# Altium footprint library Power Management Linear Regulator.PcbLib: 75 footprints (part 3 of 5)
Each footprint in its own frame and in the unit in brackets; x right, y up, seen from the top. Pads: shape width x height; smd on the part's side, far side on the other; paste and mask are expansions set on the pad; w line width, h text height; cw(c..) or ccw(c..) is an arc to the next point about the centre after c.
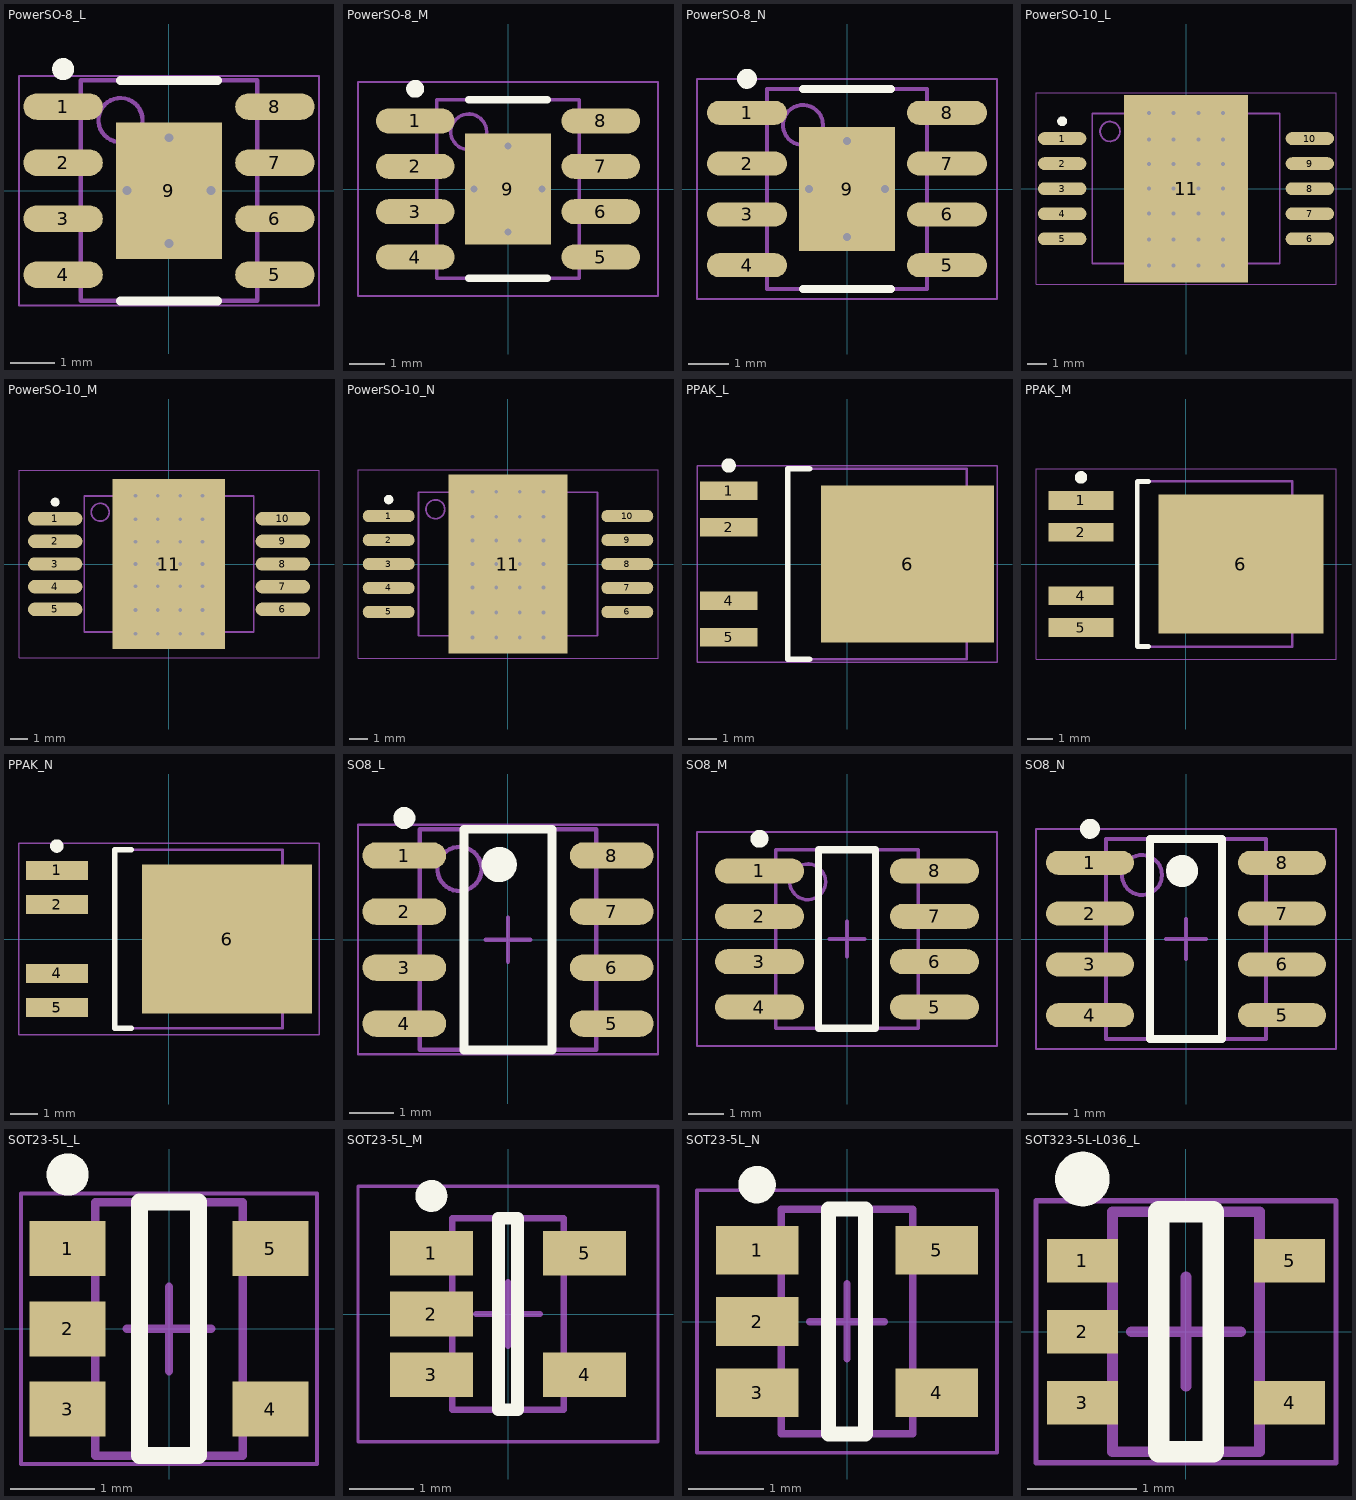
[diagram p2: the footprints below, top view; thin cyan lines are the x and y axes]

## PowerSO-8_L [mm] "SOIC, 8-Leads, Body 4.9x3.9mm, Pitch 1.27mm, Thermal Pad, IPC High Density"
height 1.7
pads (9):
  oval 1.8x0.6 smd: 1(-2.4,1.905) 2(-2.4,0.635) 3(-2.4,-0.635) 4(-2.4,-1.905) 5(2.4,-1.905) 6(2.4,-0.635) 7(2.4,0.635) 8(2.4,1.905)
  rect 2.41x3.1 smd paste-1.2: 9(0,0)
via -0.95,0 diameter 0.5 hole 0.2
via 0,-1.2 diameter 0.5 hole 0.2
via 0,1.2 diameter 0.5 hole 0.2
via 0.95,0 diameter 0.5 hole 0.2
Top Overlay:
  circle w0.25: c-2.4,2.755 r0.125
  lines w0.2: -1.1,-2.5 1.1,-2.5 ; -1.1,2.5 1.1,2.5
Top Paste:
  rectangle: 0.1,-1.45 1.1,-0.1
  region: -0.1,-0.1 -1.1,-0.1 -1.1,-1.45 -0.1,-1.45
  region: -0.1,1.45 -1.1,1.45 -1.1,0.1 -0.1,0.1
  rectangle: 0.1,0.1 1.1,1.45
Mechanical 13:
  circle w0.1: c-1.1,1.6 r0.5
  lines w0.1: -2,-2.5 -2,2.5 2,2.5 2,-2.5 -2,-2.5
Mechanical 15:
  lines w0.05: -3.4,-2.6 -3.4,2.6 3.4,2.6 3.4,-2.6 -3.4,-2.6
  lines w0.1: -0.5,0 0.5,0 ; 0,-0.5 0,0.5
3D body: height 1.7, standoff 0, extent -2,-2.5 2,2.5

## PowerSO-8_M [mm] "SOIC, 8-Leads, Body 4.9x3.9mm, Pitch 1.27mm, Thermal Pad, IPC Low Density"
height 1.7
pads (9):
  oval 2.2x0.7 smd: 1(-2.6,1.905) 2(-2.6,0.635) 3(-2.6,-0.635) 4(-2.6,-1.905) 5(2.6,-1.905) 6(2.6,-0.635) 7(2.6,0.635) 8(2.6,1.905)
  rect 2.41x3.1 smd paste-1.2: 9(0,0)
via 0.95,0 diameter 0.5 hole 0.2
via 0,1.2 diameter 0.5 hole 0.2
via 0,-1.2 diameter 0.5 hole 0.2
via -0.95,0 diameter 0.5 hole 0.2
Top Overlay:
  circle w0.25: c-2.6,2.805 r0.125
  lines w0.2: -1.1,-2.5 1.1,-2.5 ; -1.1,2.5 1.1,2.5
Top Paste:
  rectangle: 0.1,0.1 1.1,1.45
  region: -0.1,1.45 -1.1,1.45 -1.1,0.1 -0.1,0.1
  region: -0.1,-0.1 -1.1,-0.1 -1.1,-1.45 -0.1,-1.45
  rectangle: 0.1,-1.45 1.1,-0.1
Mechanical 13:
  circle w0.1: c-1.1,1.6 r0.5
  lines w0.1: -2,-2.5 -2,2.5 2,2.5 2,-2.5 -2,-2.5
Mechanical 15:
  lines w0.05: -4.2,-3 -4.2,3 4.2,3 4.2,-3 -4.2,-3
  lines w0.1: -0.5,0 0.5,0 ; 0,-0.5 0,0.5
3D body: height 1.7, standoff 0, extent -2,-2.5 2,2.5

## PowerSO-8_N [mm] "SOIC, 8-Leads, Body 4.9x3.9mm, Pitch 1.27mm, Thermal Pad, IPC Medium Density"
height 1.7
pads (9):
  oval 2x0.6 smd: 1(-2.5,1.905) 2(-2.5,0.635) 3(-2.5,-0.635) 4(-2.5,-1.905) 5(2.5,-1.905) 6(2.5,-0.635) 7(2.5,0.635) 8(2.5,1.905)
  rect 2.41x3.1 smd paste-1.2: 9(0,0)
via -0.95,0 diameter 0.5 hole 0.2
via 0,-1.2 diameter 0.5 hole 0.2
via 0,1.2 diameter 0.5 hole 0.2
via 0.95,0 diameter 0.5 hole 0.2
Top Overlay:
  circle w0.25: c-2.5,2.755 r0.125
  lines w0.2: -1.1,-2.5 1.1,-2.5 ; -1.1,2.5 1.1,2.5
Top Paste:
  rectangle: 0.1,-1.45 1.1,-0.1
  region: -0.1,-0.1 -1.1,-0.1 -1.1,-1.45 -0.1,-1.45
  region: -0.1,1.45 -1.1,1.45 -1.1,0.1 -0.1,0.1
  rectangle: 0.1,0.1 1.1,1.45
Mechanical 13:
  circle w0.1: c-1.1,1.6 r0.5
  lines w0.1: -2,-2.5 2,-2.5 2,2.5 -2,2.5 -2,-2.5
Mechanical 15:
  lines w0.05: -3.75,-2.75 3.75,-2.75 3.75,2.75 -3.75,2.75 -3.75,-2.75
  lines w0.1: -0.5,0 0.5,0 ; 0,-0.5 0,0.5
3D body: height 1.7, standoff 0, extent -2,-2.5 2,2.5

## PowerSO-10_L [mm] "SOP, 10-Leads, Body 7.5x9.4mm, Pitch 1.27mm, Thermal Pad, IPC High Density"
height 3.7
pads (11):
  oval 2.45x0.65 smd: 1(-6.275,2.54) 2(-6.275,1.27) 3(-6.275,0) 4(-6.275,-1.27) 5(-6.275,-2.54) 6(6.275,-2.54) 7(6.275,-1.27) 8(6.275,0) 9(6.275,1.27) 10(6.275,2.54)
  rect 6.3x9.5 smd paste-3.15 mask+0.051: 11(0,0)
via 0.625,-1.25 diameter 0.5 hole 0.2
via -0.625,-1.25 diameter 0.5 hole 0.2
via -1.875,-1.25 diameter 0.5 hole 0.2
via -1.875,1.25 diameter 0.5 hole 0.2
via -1.875,0 diameter 0.5 hole 0.2
via -0.625,0 diameter 0.5 hole 0.2
via -1.875,2.5 diameter 0.5 hole 0.2
via 0.625,2.5 diameter 0.5 hole 0.2
via -0.625,2.5 diameter 0.5 hole 0.2
via -0.625,1.25 diameter 0.5 hole 0.2
via 1.875,-1.25 diameter 0.5 hole 0.2
via 1.875,0 diameter 0.5 hole 0.2
via 1.875,2.5 diameter 0.5 hole 0.2
via 0.625,0 diameter 0.5 hole 0.2
via 0.625,2.5 diameter 0.5 hole 0.2
via 1.875,1.25 diameter 0.5 hole 0.2
via 0.625,1.25 diameter 0.5 hole 0.2
via 1.875,-2.575 diameter 0.5 hole 0.2
via -1.875,-2.575 diameter 0.5 hole 0.2
via -0.625,-2.575 diameter 0.5 hole 0.2
via 0.625,-2.575 diameter 0.5 hole 0.2
via -1.875,3.825 diameter 0.5 hole 0.2
via 1.875,3.825 diameter 0.5 hole 0.2
via 0.625,3.825 diameter 0.5 hole 0.2
via -0.625,3.825 diameter 0.5 hole 0.2
via 0.625,-3.9 diameter 0.5 hole 0.2
via -0.625,-3.9 diameter 0.5 hole 0.2
via -1.875,-3.9 diameter 0.5 hole 0.2
via 1.875,-3.9 diameter 0.5 hole 0.2
Top Overlay:
  circle w0.25: c-6.275,3.415 r0.125
Top Paste:
  region: -0.738,-2.387 -0.738,-1.437 -1.762,-1.437 -1.762,-2.387
  region: 0.512,-2.387 0.512,-1.437 -0.512,-1.437 -0.512,-2.387
  region: 1.762,-2.387 1.762,-1.437 0.738,-1.437 0.738,-2.387
  region: -1.762,3.637 -1.762,2.687 -0.738,2.687 -0.738,3.637
  region: -0.512,3.637 -0.512,2.687 0.512,2.687 0.512,3.637
  region: 0.738,3.637 0.738,2.687 1.762,2.687 1.762,3.637
  region: 1.725,-1.1 1.725,-0.15 0.775,-0.15 0.775,-1.1
  region: 0.475,-1.1 0.475,-0.15 -0.475,-0.15 -0.475,-1.1
  region: -0.775,-1.1 -0.775,-0.15 -1.725,-0.15 -1.725,-1.1
  region: -0.775,0.15 -0.775,1.1 -1.725,1.1 -1.725,0.15
  rectangle: -1.725,1.4 -0.775,2.35
  region: 0.475,2.35 -0.475,2.35 -0.475,1.4 0.475,1.4
  rectangle: -3.05,0.15 -2.025,1.1
  rectangle: -3.05,1.4 -2.025,2.35
  rectangle: -3.05,2.65 -2.025,3.675
  rectangle: -3.05,0.15 -2.025,1.1
  rectangle: -3.05,-2.425 -2.025,-1.4
  rectangle: -3.05,-1.1 -2.025,-0.15
  region: 3.05,-0.15 2.025,-0.15 2.025,-1.1 3.05,-1.1
  region: 3.05,-1.4 2.025,-1.4 2.025,-2.425 3.05,-2.425
  region: 3.05,1.1 2.025,1.1 2.025,0.15 3.05,0.15
  region: 3.05,3.675 2.025,3.675 2.025,2.65 3.05,2.65
  region: 3.05,2.35 2.025,2.35 2.025,1.4 3.05,1.4
  region: 1.725,1.1 0.775,1.1 0.775,0.15 1.725,0.15
  region: 1.725,2.35 0.775,2.35 0.775,1.4 1.725,1.4
  rectangle: -0.475,0.15 0.475,1.1
  region: 3.05,-2.725 2.025,-2.725 2.025,-3.75 3.05,-3.75
  rectangle: -3.05,-3.75 -2.025,-2.725
  region: 1.762,-3.713 1.762,-2.763 0.738,-2.763 0.738,-3.713
  region: 0.512,-3.713 0.512,-2.763 -0.512,-2.763 -0.512,-3.713
  region: -0.738,-3.713 -0.738,-2.763 -1.762,-2.763 -1.762,-3.713
  rectangle: -3.05,3.975 -2.025,4.65
  region: 3.05,4.65 2.025,4.65 2.025,3.975 3.05,3.975
  region: -1.763,4.65 -1.763,4.012 -0.738,4.012 -0.738,4.65
  region: -0.513,4.65 -0.513,4.012 0.512,4.012 0.512,4.65
  region: 0.737,4.65 0.737,4.012 1.762,4.012 1.762,4.65
  region: -0.738,-4.65 -0.738,-4.087 -1.763,-4.087 -1.763,-4.65
  region: 0.512,-4.65 0.512,-4.087 -0.513,-4.087 -0.513,-4.65
  region: 1.762,-4.65 1.762,-4.087 0.737,-4.087 0.737,-4.65
  rectangle: -3.05,-4.65 -2.025,-4.05
  region: 3.05,-4.05 2.025,-4.05 2.025,-4.65 3.05,-4.65
Mechanical 13:
  circle w0.1: c-3.85,2.9 r0.5
  lines w0.1: -4.75,-3.8 4.75,-3.8 4.75,3.8 -4.75,3.8 -4.75,-3.8
Mechanical 15:
  lines w0.05: -7.6,-4.85 7.6,-4.85 7.6,4.85 -7.6,4.85 -7.6,-4.85
  lines w0.1: -0.5,0 0.5,0 ; 0,-0.5 0,0.5
3D body: height 3.7, standoff 0, extent -4.75,-3.8 4.75,3.8

## PowerSO-10_M [mm] "SOP, 10-Leads, Body 7.5x9.4mm, Pitch 1.27mm, Thermal Pad, IPC Low Density"
height 3.7
pads (11):
  oval 3.05x0.75 smd: 1(-6.375,2.54) 2(-6.375,1.27) 3(-6.375,0) 4(-6.375,-1.27) 5(-6.375,-2.54) 6(6.375,-2.54) 7(6.375,-1.27) 8(6.375,0) 9(6.375,1.27) 10(6.375,2.54)
  rect 6.3x9.5 smd paste-3.15 mask+0.051: 11(0,0)
via 0.625,-1.25 diameter 0.5 hole 0.2
via -0.625,-1.25 diameter 0.5 hole 0.2
via -1.875,-1.25 diameter 0.5 hole 0.2
via -1.875,1.25 diameter 0.5 hole 0.2
via -1.875,0 diameter 0.5 hole 0.2
via -0.625,0 diameter 0.5 hole 0.2
via -1.875,2.5 diameter 0.5 hole 0.2
via 0.625,2.5 diameter 0.5 hole 0.2
via -0.625,2.5 diameter 0.5 hole 0.2
via -0.625,1.25 diameter 0.5 hole 0.2
via 1.875,-1.25 diameter 0.5 hole 0.2
via 1.875,0 diameter 0.5 hole 0.2
via 1.875,2.5 diameter 0.5 hole 0.2
via 0.625,0 diameter 0.5 hole 0.2
via 0.625,2.5 diameter 0.5 hole 0.2
via 1.875,1.25 diameter 0.5 hole 0.2
via 0.625,1.25 diameter 0.5 hole 0.2
via 1.875,-2.575 diameter 0.5 hole 0.2
via -1.875,-2.575 diameter 0.5 hole 0.2
via -0.625,-2.575 diameter 0.5 hole 0.2
via 0.625,-2.575 diameter 0.5 hole 0.2
via -1.875,3.825 diameter 0.5 hole 0.2
via 1.875,3.825 diameter 0.5 hole 0.2
via 0.625,3.825 diameter 0.5 hole 0.2
via -0.625,3.825 diameter 0.5 hole 0.2
via 0.625,-3.9 diameter 0.5 hole 0.2
via -0.625,-3.9 diameter 0.5 hole 0.2
via -1.875,-3.9 diameter 0.5 hole 0.2
via 1.875,-3.9 diameter 0.5 hole 0.2
Top Overlay:
  circle w0.25: c-6.375,3.465 r0.125
Top Paste:
  region: -0.738,-2.387 -0.738,-1.437 -1.762,-1.437 -1.762,-2.387
  region: 0.512,-2.387 0.512,-1.437 -0.512,-1.437 -0.512,-2.387
  region: 1.762,-2.387 1.762,-1.437 0.738,-1.437 0.738,-2.387
  region: -1.762,3.637 -1.762,2.687 -0.738,2.687 -0.738,3.637
  region: -0.512,3.637 -0.512,2.687 0.512,2.687 0.512,3.637
  region: 0.738,3.637 0.738,2.687 1.762,2.687 1.762,3.637
  region: 1.725,-1.1 1.725,-0.15 0.775,-0.15 0.775,-1.1
  region: 0.475,-1.1 0.475,-0.15 -0.475,-0.15 -0.475,-1.1
  region: -0.775,-1.1 -0.775,-0.15 -1.725,-0.15 -1.725,-1.1
  region: -0.775,0.15 -0.775,1.1 -1.725,1.1 -1.725,0.15
  rectangle: -1.725,1.4 -0.775,2.35
  region: 0.475,2.35 -0.475,2.35 -0.475,1.4 0.475,1.4
  rectangle: -3.05,0.15 -2.025,1.1
  rectangle: -3.05,1.4 -2.025,2.35
  rectangle: -3.05,2.65 -2.025,3.675
  rectangle: -3.05,0.15 -2.025,1.1
  rectangle: -3.05,-2.425 -2.025,-1.4
  rectangle: -3.05,-1.1 -2.025,-0.15
  region: 3.05,-0.15 2.025,-0.15 2.025,-1.1 3.05,-1.1
  region: 3.05,-1.4 2.025,-1.4 2.025,-2.425 3.05,-2.425
  region: 3.05,1.1 2.025,1.1 2.025,0.15 3.05,0.15
  region: 3.05,3.675 2.025,3.675 2.025,2.65 3.05,2.65
  region: 3.05,2.35 2.025,2.35 2.025,1.4 3.05,1.4
  region: 1.725,1.1 0.775,1.1 0.775,0.15 1.725,0.15
  region: 1.725,2.35 0.775,2.35 0.775,1.4 1.725,1.4
  rectangle: -0.475,0.15 0.475,1.1
  region: 3.05,-2.725 2.025,-2.725 2.025,-3.75 3.05,-3.75
  rectangle: -3.05,-3.75 -2.025,-2.725
  region: 1.762,-3.713 1.762,-2.763 0.738,-2.763 0.738,-3.713
  region: 0.512,-3.713 0.512,-2.763 -0.512,-2.763 -0.512,-3.713
  region: -0.738,-3.713 -0.738,-2.763 -1.762,-2.763 -1.762,-3.713
  rectangle: -3.05,3.975 -2.025,4.65
  region: 3.05,4.65 2.025,4.65 2.025,3.975 3.05,3.975
  region: -1.763,4.65 -1.763,4.012 -0.738,4.012 -0.738,4.65
  region: -0.513,4.65 -0.513,4.012 0.512,4.012 0.512,4.65
  region: 0.737,4.65 0.737,4.012 1.762,4.012 1.762,4.65
  region: -0.738,-4.65 -0.738,-4.087 -1.763,-4.087 -1.763,-4.65
  region: 0.512,-4.65 0.512,-4.087 -0.513,-4.087 -0.513,-4.65
  region: 1.762,-4.65 1.762,-4.087 0.737,-4.087 0.737,-4.65
  rectangle: -3.05,-4.65 -2.025,-4.05
  region: 3.05,-4.05 2.025,-4.05 2.025,-4.65 3.05,-4.65
Mechanical 13:
  circle w0.1: c-3.85,2.9 r0.5
  lines w0.1: -4.75,-3.8 -4.75,3.8 4.75,3.8 4.75,-3.8 -4.75,-3.8
Mechanical 15:
  lines w0.05: -8.4,-5.25 -8.4,5.25 8.4,5.25 8.4,-5.25 -8.4,-5.25
  lines w0.1: -0.5,0 0.5,0 ; 0,-0.5 0,0.5
3D body: height 3.7, standoff 0, extent -4.75,-3.8 4.75,3.8

## PowerSO-10_N [mm] "SOP, 10-Leads, Body 7.5x9.4mm, Pitch 1.27mm, Thermal Pad, IPC Medium Density"
height 3.7
pads (11):
  oval 2.75x0.65 smd: 1(-6.325,2.54) 2(-6.325,1.27) 3(-6.325,0) 4(-6.325,-1.27) 5(-6.325,-2.54) 6(6.325,-2.54) 7(6.325,-1.27) 8(6.325,0) 9(6.325,1.27) 10(6.325,2.54)
  rect 6.3x9.5 smd paste-3.15 mask+0.051: 11(0,0)
via 1.875,-3.9 diameter 0.5 hole 0.2
via -1.875,-3.9 diameter 0.5 hole 0.2
via -0.625,-3.9 diameter 0.5 hole 0.2
via 0.625,-3.9 diameter 0.5 hole 0.2
via -0.625,3.825 diameter 0.5 hole 0.2
via 0.625,3.825 diameter 0.5 hole 0.2
via 1.875,3.825 diameter 0.5 hole 0.2
via -1.875,3.825 diameter 0.5 hole 0.2
via 0.625,-2.575 diameter 0.5 hole 0.2
via -0.625,-2.575 diameter 0.5 hole 0.2
via -1.875,-2.575 diameter 0.5 hole 0.2
via 1.875,-2.575 diameter 0.5 hole 0.2
via 0.625,1.25 diameter 0.5 hole 0.2
via 1.875,1.25 diameter 0.5 hole 0.2
via 0.625,2.5 diameter 0.5 hole 0.2
via 0.625,0 diameter 0.5 hole 0.2
via 1.875,2.5 diameter 0.5 hole 0.2
via 1.875,0 diameter 0.5 hole 0.2
via 1.875,-1.25 diameter 0.5 hole 0.2
via -0.625,1.25 diameter 0.5 hole 0.2
via -0.625,2.5 diameter 0.5 hole 0.2
via 0.625,2.5 diameter 0.5 hole 0.2
via -1.875,2.5 diameter 0.5 hole 0.2
via -0.625,0 diameter 0.5 hole 0.2
via -1.875,0 diameter 0.5 hole 0.2
via -1.875,1.25 diameter 0.5 hole 0.2
via -1.875,-1.25 diameter 0.5 hole 0.2
via -0.625,-1.25 diameter 0.5 hole 0.2
via 0.625,-1.25 diameter 0.5 hole 0.2
Top Overlay:
  circle w0.25: c-6.325,3.415 r0.125
Top Paste:
  region: 3.05,-4.05 2.025,-4.05 2.025,-4.65 3.05,-4.65
  rectangle: -3.05,-4.65 -2.025,-4.05
  region: 1.762,-4.65 1.762,-4.087 0.737,-4.087 0.737,-4.65
  region: 0.512,-4.65 0.512,-4.087 -0.513,-4.087 -0.513,-4.65
  region: -0.738,-4.65 -0.738,-4.087 -1.763,-4.087 -1.763,-4.65
  region: 0.737,4.65 0.737,4.012 1.762,4.012 1.762,4.65
  region: -0.513,4.65 -0.513,4.012 0.512,4.012 0.512,4.65
  region: -1.763,4.65 -1.763,4.012 -0.738,4.012 -0.738,4.65
  region: 3.05,4.65 2.025,4.65 2.025,3.975 3.05,3.975
  rectangle: -3.05,3.975 -2.025,4.65
  region: -0.738,-3.713 -0.738,-2.763 -1.762,-2.763 -1.762,-3.713
  region: 0.512,-3.713 0.512,-2.763 -0.512,-2.763 -0.512,-3.713
  region: 1.762,-3.713 1.762,-2.763 0.738,-2.763 0.738,-3.713
  rectangle: -3.05,-3.75 -2.025,-2.725
  region: 3.05,-2.725 2.025,-2.725 2.025,-3.75 3.05,-3.75
  rectangle: -0.475,0.15 0.475,1.1
  region: 1.725,2.35 0.775,2.35 0.775,1.4 1.725,1.4
  region: 1.725,1.1 0.775,1.1 0.775,0.15 1.725,0.15
  region: 3.05,2.35 2.025,2.35 2.025,1.4 3.05,1.4
  region: 3.05,3.675 2.025,3.675 2.025,2.65 3.05,2.65
  region: 3.05,1.1 2.025,1.1 2.025,0.15 3.05,0.15
  region: 3.05,-1.4 2.025,-1.4 2.025,-2.425 3.05,-2.425
  region: 3.05,-0.15 2.025,-0.15 2.025,-1.1 3.05,-1.1
  rectangle: -3.05,-1.1 -2.025,-0.15
  rectangle: -3.05,-2.425 -2.025,-1.4
  rectangle: -3.05,0.15 -2.025,1.1
  rectangle: -3.05,2.65 -2.025,3.675
  rectangle: -3.05,1.4 -2.025,2.35
  rectangle: -3.05,0.15 -2.025,1.1
  region: 0.475,2.35 -0.475,2.35 -0.475,1.4 0.475,1.4
  rectangle: -1.725,1.4 -0.775,2.35
  region: -0.775,0.15 -0.775,1.1 -1.725,1.1 -1.725,0.15
  region: -0.775,-1.1 -0.775,-0.15 -1.725,-0.15 -1.725,-1.1
  region: 0.475,-1.1 0.475,-0.15 -0.475,-0.15 -0.475,-1.1
  region: 1.725,-1.1 1.725,-0.15 0.775,-0.15 0.775,-1.1
  region: 0.738,3.637 0.738,2.687 1.762,2.687 1.762,3.637
  region: -0.512,3.637 -0.512,2.687 0.512,2.687 0.512,3.637
  region: -1.762,3.637 -1.762,2.687 -0.738,2.687 -0.738,3.637
  region: 1.762,-2.387 1.762,-1.437 0.738,-1.437 0.738,-2.387
  region: 0.512,-2.387 0.512,-1.437 -0.512,-1.437 -0.512,-2.387
  region: -0.738,-2.387 -0.738,-1.437 -1.762,-1.437 -1.762,-2.387
Mechanical 13:
  circle w0.1: c-3.85,2.9 r0.5
  lines w0.1: -4.75,-3.8 -4.75,3.8 4.75,3.8 4.75,-3.8 -4.75,-3.8
Mechanical 15:
  lines w0.05: -7.95,-5 -7.95,5 7.95,5 7.95,-5 -7.95,-5
  lines w0.1: -0.5,0 0.5,0 ; 0,-0.5 0,0.5
3D body: height 3.7, standoff 0, extent -4.75,-3.8 4.75,3.8

## PPAK_L [mm] "D-PAK, 6-Leads, Body 6.1x6.5mm, Pitch 1.27mm, Lead Span 9.7mm, IPC High Density"
height 2.4
pads (5):
  rect 2x0.65 smd: 1(-4.1,2.54) 2(-4.1,1.27) 4(-4.1,-1.27) 5(-4.1,-2.54)
  rect 6x5.45 smd: 6(2.1,0)
Top Overlay:
  circle w0.25: c-4.1,3.415 r0.125
  lines w0.2: -1.3,-3.3 -2.05,-3.3 -2.05,3.3 -1.3,3.3
Mechanical 13:
  lines w0.1: -2.05,-3.3 4.15,-3.3 4.15,3.3 -2.05,3.3 -2.05,-3.3
Mechanical 15:
  lines w0.05: -5.2,-3.4 5.2,-3.4 5.2,3.4 -5.2,3.4 -5.2,-3.4
  lines w0.1: -0.5,0 0.5,0 ; 0,-0.5 0,0.5
3D body: height 2.4, standoff 0, extent -2.05,-3.3 4.15,3.3

## PPAK_M [mm] "D-PAK, 6-Leads, Body 6.1x6.5mm, Pitch 1.27mm, Lead Span 9.7mm, IPC Low Density"
height 2.4
pads (5):
  rect 2.6x0.75 smd: 1(-4.2,2.54) 2(-4.2,1.27) 4(-4.2,-1.27) 5(-4.2,-2.54)
  rect 6.6x5.55 smd: 6(2.2,0)
Top Overlay:
  circle w0.25: c-4.2,3.465 r0.125
  lines w0.2: -1.5,-3.3 -1.95,-3.3 -1.95,3.3 -1.5,3.3
Mechanical 13:
  lines w0.1: -1.95,-3.3 4.25,-3.3 4.25,3.3 -1.95,3.3 -1.95,-3.3
Mechanical 15:
  lines w0.05: -6,-3.8 6,-3.8 6,3.8 -6,3.8 -6,-3.8
  lines w0.1: -0.5,0 0.5,0 ; 0,-0.5 0,0.5
3D body: height 2.4, standoff 0, extent -1.95,-3.3 4.25,3.3

## PPAK_N [mm] "D-PAK, 6-Leads, Body 6.1x6.5mm, Pitch 1.27mm, Lead Span 9.7mm, IPC Medium Density"
height 2.4
pads (5):
  rect 2.3x0.7 smd: 1(-4.15,2.54) 2(-4.15,1.27) 4(-4.15,-1.27) 5(-4.15,-2.54)
  rect 6.3x5.5 smd: 6(2.15,0)
Top Overlay:
  circle w0.25: c-4.15,3.44 r0.125
  lines w0.2: -1.4,-3.3 -2,-3.3 -2,3.3 -1.4,3.3
Mechanical 13:
  lines w0.1: -2,-3.3 4.2,-3.3 4.2,3.3 -2,3.3 -2,-3.3
Mechanical 15:
  lines w0.05: -5.55,-3.55 5.55,-3.55 5.55,3.55 -5.55,3.55 -5.55,-3.55
  lines w0.1: -0.5,0 0.5,0 ; 0,-0.5 0,0.5
3D body: height 2.4, standoff 0, extent -2,-3.3 4.2,3.3

## SO8_L [mm] "SOIC, 8-Leads, Body 4.9x3.9mm, Pitch 1.27mm, IPC High Density"
height 1.75
pads (8):
  oval 1.9x0.6 smd: 1(-2.35,1.905) 2(-2.35,0.635) 3(-2.35,-0.635) 4(-2.35,-1.905) 5(2.35,-1.905) 6(2.35,-0.635) 7(2.35,0.635) 8(2.35,1.905)
Top Overlay:
  circle w0.25: c-2.35,2.755 r0.125
  circle w0.4: c-0.2,1.7 r0.2
  lines w0.2: -1,-2.5 -1,2.5 1,2.5 1,-2.5 -1,-2.5
Mechanical 13:
  circle w0.1: c-1.1,1.6 r0.5
  lines w0.1: -2,-2.5 -2,2.5 2,2.5 2,-2.5 -2,-2.5
Mechanical 15:
  lines w0.05: -3.4,-2.6 -3.4,2.6 3.4,2.6 3.4,-2.6 -3.4,-2.6
  lines w0.1: -0.5,0 0.5,0 ; 0,-0.5 0,0.5
3D body: height 1.75, standoff 0.1, extent -2,-2.5 2,2.5

## SO8_M [mm] "SOIC, 8-Leads, Body 4.9x3.9mm, Pitch 1.27mm, IPC Low Density"
height 1.75
pads (8):
  oval 2.5x0.7 smd: 1(-2.45,1.905) 2(-2.45,0.635) 3(-2.45,-0.635) 4(-2.45,-1.905) 5(2.45,-1.905) 6(2.45,-0.635) 7(2.45,0.635) 8(2.45,1.905)
Top Overlay:
  circle w0.25: c-2.45,2.805 r0.125
  lines w0.2: -0.8,-2.5 0.8,-2.5 0.8,2.5 -0.8,2.5 -0.8,-2.5
Mechanical 13:
  circle w0.1: c-1.1,1.6 r0.5
  lines w0.1: -2,-2.5 2,-2.5 2,2.5 -2,2.5 -2,-2.5
Mechanical 15:
  lines w0.05: -4.2,-3 4.2,-3 4.2,3 -4.2,3 -4.2,-3
  lines w0.1: -0.5,0 0.5,0 ; 0,-0.5 0,0.5
3D body: height 1.75, standoff 0.1, extent -2,-2.5 2,2.5

## SO8_N [mm] "SOIC, 8-Leads, Body 4.9x3.9mm, Pitch 1.27mm, IPC Medium Density"
height 1.75
pads (8):
  oval 2.2x0.6 smd: 1(-2.4,1.905) 2(-2.4,0.635) 3(-2.4,-0.635) 4(-2.4,-1.905) 5(2.4,-1.905) 6(2.4,-0.635) 7(2.4,0.635) 8(2.4,1.905)
Top Overlay:
  circle w0.25: c-2.4,2.755 r0.125
  circle w0.4: c-0.1,1.7 r0.2
  lines w0.2: -0.9,-2.5 -0.9,2.5 0.9,2.5 0.9,-2.5 -0.9,-2.5
Mechanical 13:
  circle w0.1: c-1.1,1.6 r0.5
  lines w0.1: -2,-2.5 -2,2.5 2,2.5 2,-2.5 -2,-2.5
Mechanical 15:
  lines w0.05: -3.75,-2.75 -3.75,2.75 3.75,2.75 3.75,-2.75 -3.75,-2.75
  lines w0.1: -0.5,0 0.5,0 ; 0,-0.5 0,0.5
3D body: height 1.75, standoff 0.1, extent -2,-2.5 2,2.5

## SOT23-5L_L [mm] "SOT23, 5-Leads, Body 2.9x1.6mm, Pitch 0.95mm, Lead Span 2.8mm, IPC High Density"
height 1.45
pads (5):
  rect 0.9x0.65 smd: 1(-1.2,0.95) 2(-1.2,0) 3(-1.2,-0.95) 4(1.2,-0.95) 5(1.2,0.95)
Top Overlay:
  circle w0.25: c-1.2,1.825 r0.125
  lines w0.2: -0.35,-1.5 -0.35,1.5 0.35,1.5 0.35,-1.5 -0.35,-1.5
Mechanical 13:
  lines w0.1: -0.875,-1.5 0.875,-1.5 0.875,1.5 -0.875,1.5 -0.875,-1.5
Mechanical 15:
  lines w0.05: -1.75,-1.6 1.75,-1.6 1.75,1.6 -1.75,1.6 -1.75,-1.6
  lines w0.1: -0.5,0 0.5,0 ; 0,-0.5 0,0.5
3D body: height 1.45, standoff 0, extent -0.875,-1.5 0.875,1.5

## SOT23-5L_M [mm] "SOT23, 5-Leads, Body 2.9x1.6mm, Pitch 0.95mm, Lead Span 2.8mm, IPC Low Density"
height 1.45
pads (5):
  rect 1.3x0.7 smd: 1(-1.2,0.95) 2(-1.2,0) 3(-1.2,-0.95) 4(1.2,-0.95) 5(1.2,0.95)
Top Overlay:
  circle w0.25: c-1.2,1.85 r0.125
  lines w0.2: -0.15,-1.5 -0.15,1.5 0.15,1.5 0.15,-1.5 -0.15,-1.5
Mechanical 13:
  lines w0.1: -0.875,-1.5 0.875,-1.5 0.875,1.5 -0.875,1.5 -0.875,-1.5
Mechanical 15:
  lines w0.05: -2.35,-2 2.35,-2 2.35,2 -2.35,2 -2.35,-2
  lines w0.1: -0.5,0 0.5,0 ; 0,-0.5 0,0.5
3D body: height 1.45, standoff 0, extent -0.875,-1.5 0.875,1.5

## SOT23-5L_N [mm] "SOT23, 5-Leads, Body 2.9x1.6mm, Pitch 0.95mm, Lead Span 2.8mm, IPC Medium Density"
height 1.45
pads (5):
  rect 1.1x0.65 smd: 1(-1.2,0.95) 2(-1.2,0) 3(-1.2,-0.95) 4(1.2,-0.95) 5(1.2,0.95)
Top Overlay:
  circle w0.25: c-1.2,1.825 r0.125
  lines w0.2: -0.25,-1.5 -0.25,1.5 0.25,1.5 0.25,-1.5 -0.25,-1.5
Mechanical 13:
  lines w0.1: -0.875,-1.5 0.875,-1.5 0.875,1.5 -0.875,1.5 -0.875,-1.5
Mechanical 15:
  lines w0.05: -2,-1.75 2,-1.75 2,1.75 -2,1.75 -2,-1.75
  lines w0.1: -0.5,0 0.5,0 ; 0,-0.5 0,0.5
3D body: height 1.45, standoff 0, extent -0.875,-1.5 0.875,1.5

## SOT323-5L-L036_L [mm] "SOT353, 5-Leads, Body 2x1.3mm, Pitch 0.65mm, Lead Span 2.1mm, IPC High Density"
height 1.1
pads (5):
  rect 0.65x0.4 smd: 1(-0.95,0.65) 2(-0.95,0) 3(-0.95,-0.65) 4(0.95,-0.65) 5(0.95,0.65)
Top Overlay:
  circle w0.25: c-0.95,1.4 r0.125
  lines w0.2: -0.25,-1.1 -0.25,1.1 0.25,1.1 0.25,-1.1 -0.25,-1.1
Mechanical 13:
  lines w0.1: -0.675,-1.1 0.675,-1.1 0.675,1.1 -0.675,1.1 -0.675,-1.1
Mechanical 15:
  lines w0.05: -1.375,-1.2 1.375,-1.2 1.375,1.2 -1.375,1.2 -1.375,-1.2
  lines w0.1: -0.5,0 0.5,0 ; 0,-0.5 0,0.5
3D body: height 1.1, standoff 0, extent -0.675,-1.1 0.675,1.1